# Altium schematic symbol library 0154.250DR.SchLib: 1 symbol
Pins are listed as number, name and electrical type; pins without a type are passive.

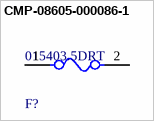
[diagram p0: symbol CMP-08605-000086-1]

## CMP-08605-000086-1
designator F?, comment 015403.5DRT
FUSE BRD MNT 3.5A 125VAC/VDC SMD; Fuse Type: Board Mount (Cartridge Style Excluded); Voltage Rating (AC): 125V; Body Material: Ceramic; Power Dissipation: 125W; Color: White; DC Cold Resistance: 22.4mR; Approvals: UL; Min Operating Temperature: -55°C; Mount: Surface Mount; Number of Pins: 2; Radiation Hardening: No; Lead Free: Lead Free; Max Operating Temperature: 125°C; Flammability Rating: UL94 V-0; Packaging: Tape and Reel; Termination: SMD/SMT; Height: 3.81mm; Voltage Rating (DC): 125V; Package Quantity: 1500; Working Voltage: 125V; Voltage Rating: 125V; Width: 5.03mm; Depth: 5.03mm; Current Rating: 3.5A; Fuse Current: 3.5A; Length: 9.73mm; Case/Package: SMD/SMT
footprint FP-0154-MFG
pins: 1, 2